# Altium schematic symbol library NCP715SQ33T2G.SchLib: 1 symbol
Pins are listed as number, name and electrical type; pins without a type are passive.

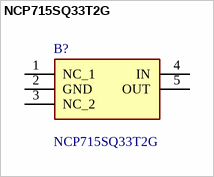
[diagram p0: symbol NCP715SQ33T2G]

## NCP715SQ33T2G
designator B?
ON SEMICONDUCTOR - NCP715SQ33T2G - LDO, FIXED, 3.3V, 0.05A, SC-70-5; Manufacturer_Name: onsemi; Geometry.Height: 1.1mm; Mouser Part Number: 863-NCP715SQ33T2G; Mouser Price/Stock: https://www.mouser.co.uk/ProductDetail/onsemi/NCP715SQ33T2G?qs=dbuNSGnowt2ffOIPXxfL9g%3D%3D; Manufacturer_Part_Number: NCP715SQ33T2G; Datasheet Link: http://www.onsemi.com/pub/Collateral/NCP715-D.PDF
footprint SOT65P210X110-5N
pins: 1 NC_1, 2 GND, 3 NC_2, 4 IN, 5 OUT